# Altium schematic symbol library SchlibpolyESP.SchLib: 31 symbols
Pins are listed as number, name and electrical type; pins without a type are passive.

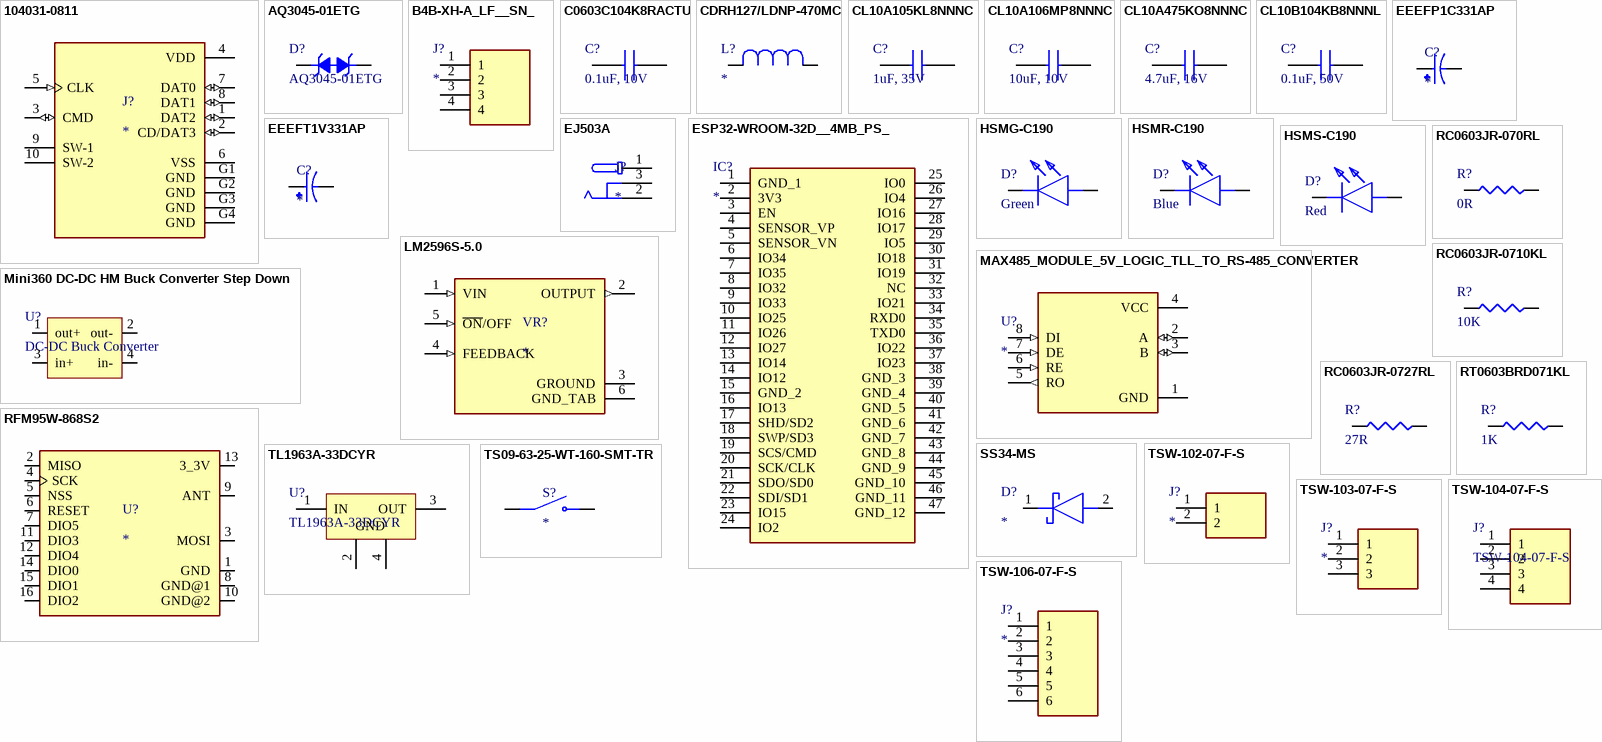
[diagram p0: symbols 104031-0811 to TSW-106-07-F-S]

## 104031-0811
designator J?
Surface Mount Micro SD Card Connector, with Push In Termination | Molex Incorporated 104031-0811; SnapEDA_Link: https://www.snapeda.com/parts/104031-0811/Molex/view-part/?ref=snap; Package: None; Value: *; MF: Molex; MP: 104031-0811; Check_prices: https://www.snapeda.com/parts/104031-0811/Molex/view-part/?ref=eda
footprint MOLEX_104031-0811
pins: 1 DAT2 (io), 2 CD/DAT3 (io), 3 CMD (io), 4 VDD (power), 5 CLK (in), 6 VSS (power), 7 DAT0 (io), 8 DAT1 (io), 9 SW-1, 10 SW-2, G1 GND (power), G2 GND (power), G3 GND (power), G4 GND (power)

## AQ3045-01ETG
designator D?
TVS DIODE 5.3VWM 12VC SOD882; Manufacturer: Littelfuse; Diode Element Material: SILICON; Package Body Material: Plastic; Polarity: Bidirectional; Max Breakdown Voltage: 9V; Min Breakdown Voltage: 6.8V; Diode Type: TRANS VOLTAGE SUPPRESSOR; Non-rep Peak Rev Power Dis-Max: 40W; Number of Elements: 1; Rep Pk Reverse Voltage-Max: 5.3V; Reference Standard: AEC-Q101; Supplier: Digikey; Supplier Part Number: F9321CT-ND; Manufacturer Part Number: AQ3045-01ETG; RoHS: Yes; Category: TVS Diodes; Stock: 21664; Pricing: 1=0.5, 10=0.391, 100=0.2344, 500=0.217, 1000=0.14756, 2000=0.13585, 5000=0.1302 (USD); Pins: 2; Package Shape: Rectangular; Min Operating Temperature: -55°C; Max Operating Temperature: 150°C; Package Style: CHIP CARRIERMeter; Surface Mount: Yes; Technology: AVALANCHE; Terminal Form: No Lead; Terminal Position: BOTTOM; Reach SVHC Compliant: Yes; RoHS Compliant: Yes; ComponentLink1URL: https://datasheet.ciiva.com:443/pdfs/VipMasterIC/IC/LFSI/LFSI-S-A0007892042/LFSI-S-A0007892042-1.pdf?src-supplier=IHS+Markit; ComponentLink1Description: https://datasheet.ciiva.com:443/pdfs/VipMasterIC/IC/LFSI/LFSI-S-A0007892042/LFSI-S-A0007892042-1.pdf?src-supplier=IHS+Markit; ComponentLink2URL: https://www.littelfuse.com/~/media/electronics/datasheets/tvs_diode_arrays/littelfuse_tvs_diode_array_aq3045_datasheet.pdf.pdf?src-supplier=Digikey; ComponentLink2Description: https://www.littelfuse.com/~/media/electronics/datasheets/tvs_diode_arrays/littelfuse_tvs_diode_array_aq3045_datasheet.pdf.pdf?src-supplier=Digikey; ComponentLink3URL: http://www.littelfuse.com/~/media/electronics/datasheets/tvs_diode_arrays/littelfuse_tvs_diode_array_aq3045_datasheet.pdf.pdf?src-supplier=Digikey; ComponentLink3Description: http://www.littelfuse.com/~/media/electronics/datasheets/tvs_diode_arrays/littelfuse_tvs_diode_array_aq3045_datasheet.pdf.pdf?src-supplier=Digikey; LCSC Part Number: C3710326
footprint SOD882
pins: 1, 2

## B4B-XH-A_LF__SN_
designator J?
Connector; Manufacturer_Name: JST (JAPAN SOLDERLESS TERMINALS); Manufacturer_Part_Number: B4B-XH-A(LF)(SN); Datasheet Link: https://datasheet.lcsc.com/szlcsc/JST-Sales-America-B4B-XH-A-LF-SN_C144395.pdf; Height: 7mm; Mouser Part Number: 306-B4BXHALFSN; Mouser Price/Stock: https://www.mouser.co.uk/ProductDetail/JST-Commercial/B4B-XH-ALFSN?qs=cdbOS8ANM9CfC08d%252BywhFw%3D%3D; Arrow Part Number: B4B-XH-A(LF)(SN); Arrow Price/Stock: https://www.arrow.com/en/products/b4b-xh-a-lf-sn/jst-manufacturing?utm_currency=USD&region=europe
footprint B4BXHALFSN
pins: 1, 2, 3, 4

## C0603C104K8RACTU
designator C?, comment 0.1uF, 10V
CAP CER 0.1UF 10V X7R 0603; Manufacturer_Name: KEMET; Manufacturer_Part_Number: C0603C104K8RACTU; Datasheet Link: https://componentsearchengine.com/Datasheets/2/CL10A106MP8NNNC.pdf; Height: 0.9mm; Mouser Part Number: 187-CL10A106MP8NNNC; Mouser Price/Stock: https://www.mouser.co.uk/ProductDetail/Samsung-Electro-Mechanics/CL10A106MP8NNNC?qs=X6jEic%2FHinAgjcVTZfg7UA%3D%3D; Arrow Part Number: CL10A106MP8NNNC; Arrow Price/Stock: https://www.arrow.com/en/products/cl10a106mp8nnnc/samsung-electro-mechanics?utm_currency=USD&region=europe
footprint CAPC1608X90N
pins: 1, 2

## CDRH127/LDNP-470MC
designator L?
Inductor Power Shielded Drum Core 47uH 20% 1KHz Ferrite 4.1A 0.078Ohm DCR T/R; MF: Sumida Corporation; MP: CDRH127/LDNP-470MC; SnapEDA_Link: https://www.snapeda.com/parts/CDRH127/LDNP-470MC/Sumida/view-part/?ref=snap; Package: Non Standard Sumida; Value: *; Check_prices: https://www.snapeda.com/parts/CDRH127/LDNP-470MC/Sumida/view-part/?ref=eda
footprint IND_CDRH127/LDNP-470MC_SUM
pins: 1, 2

## CL10A105KL8NNNC
designator C?, comment 1uF, 35V
Ceramic Capacitor, Multilayer, Ceramic, 35V, 10% +Tol, 10% -Tol, X5R, +-15% TC, 1uF, Surface Mount, 0603 inch; Manufacturer: Samsung; Manufacturer Part Number: CL10A105KL8NNNC; Material: 4241ConductorMaterial; Supplier 1: Digikey; RoHS: Yes; Category: Ceramic Capacitors; Stock 1: 11037; Pricing 1: 1=0,13, 10=0,073, 100=0,044, 1000=0,03277 (USD); Voltage Rating (DC): 35V; Height: 900um; Lead Free: 5697LeadFree; ComponentLink1URL: https://datasheet.ciiva.com/25773/cl10a105kl8nnnc-25773809.pdf?src-supplier=Digikey; ComponentLink1Description: https://datasheet.ciiva.com/25773/cl10a105kl8nnnc-25773809.pdf?src-supplier=Digikey; ComponentLink2URL: https://datasheet.ciiva.com/16202/clseries-16202344.pdf?src-supplier=Future+Electronics; ComponentLink2Description: https://datasheet.ciiva.com/16202/clseries-16202344.pdf?src-supplier=Future+Electronics
footprint CAPC1608X90N
pins: 1, 2

## CL10A106MP8NNNC
designator C?, comment 10uF, 10V
CAP CER 10UF 10V X5R 0603; Manufacturer_Name: SAMSUNG; Manufacturer_Part_Number: CL10A106MP8NNNC; Datasheet Link: https://componentsearchengine.com/Datasheets/2/CL10A106MP8NNNC.pdf; Height: 0.9mm; Mouser Part Number: 187-CL10A106MP8NNNC; Mouser Price/Stock: https://www.mouser.co.uk/ProductDetail/Samsung-Electro-Mechanics/CL10A106MP8NNNC?qs=X6jEic%2FHinAgjcVTZfg7UA%3D%3D; Arrow Part Number: CL10A106MP8NNNC; Arrow Price/Stock: https://www.arrow.com/en/products/cl10a106mp8nnnc/samsung-electro-mechanics?utm_currency=USD&region=europe
footprint CAPC1608X90N
pins: 1, 2

## CL10A475KO8NNNC
designator C?, comment 4.7uF, 16V
CAP CER 4,7UF 16V X5R 0603; Manufacturer_Name: SAMSUNG; Manufacturer_Part_Number: CL10A475KO8NNNC; Datasheet Link: https://componentsearchengine.com/Datasheets/2/CL10A106MP8NNNC.pdf; Height: 0.9mm; Mouser Part Number: 187-CL10A106MP8NNNC; Mouser Price/Stock: https://www.mouser.co.uk/ProductDetail/Samsung-Electro-Mechanics/CL10A106MP8NNNC?qs=X6jEic%2FHinAgjcVTZfg7UA%3D%3D; Arrow Part Number: CL10A106MP8NNNC; Arrow Price/Stock: https://www.arrow.com/en/products/cl10a106mp8nnnc/samsung-electro-mechanics?utm_currency=USD&region=europe
footprint CAPC1608X90N
pins: 1, 2

## CL10B104KB8NNNL
designator C?, comment 0.1uF, 50V
CAP CER 0.1UF 50V X7R 0603; Manufacturer_Name: SAMSUNG; Manufacturer_Part_Number: CL10B104KB8NNNL; Datasheet Link: https://componentsearchengine.com/Datasheets/2/CL10A106MP8NNNC.pdf; Height: 0.9mm; Mouser Part Number: 187-CL10A106MP8NNNC; Mouser Price/Stock: https://www.mouser.co.uk/ProductDetail/Samsung-Electro-Mechanics/CL10A106MP8NNNC?qs=X6jEic%2FHinAgjcVTZfg7UA%3D%3D; Arrow Part Number: CL10A106MP8NNNC; Arrow Price/Stock: https://www.arrow.com/en/products/cl10a106mp8nnnc/samsung-electro-mechanics?utm_currency=USD&region=europe
footprint CAPC1608X90N
pins: 1, 2

## EEEFP1C331AP
designator C?
CAP ALUM 330UF 20% 16V SMD; MF: Panasonic Electronic; MP: EEE-FP1C331AP; SnapEDA_Link: https://www.snapeda.com/parts/EEE-FP1C331AP/Panasonic/view-part/?ref=snap; Package: RADIAL-2 Panasonic; Value: *; Check_prices: https://www.snapeda.com/parts/EEE-FP1C331AP/Panasonic/view-part/?ref=eda
footprint CAP_EEEFP1C331AP
pins: 1, 2

## EEEFT1V331AP
designator C?
CAP ALUM 330UF 20% 35V SMD; MF: Panasonic Electronic; MP: EEE-FT1V331AP; SnapEDA_Link: https://www.snapeda.com/parts/EEE-FT1V331AP/Panasonic/view-part/?ref=snap; Package: RADIAL-2 Panasonic; Value: *; Check_prices: https://www.snapeda.com/parts/EEE-FT1V331AP/Panasonic/view-part/?ref=eda
footprint CAP_EEEFT1V331AP
pins: 1, 2

## EJ503A
designator J?
Power Barrel Connector Jack 2.10mm ID (0.083), 5.50mm OD (0.217) Through Hole, Right Angle; MF: MPD; MP: EJ503A; Package: None; Price: None; Check_prices: https://www.snapeda.com/parts/EJ503A/MPD+%2528Memory+Protection+Devices%2529/view-part/?ref=eda; Value: *; SnapEDA_Link: https://www.snapeda.com/parts/EJ503A/MPD+%2528Memory+Protection+Devices%2529/view-part/?ref=snap; Availability: In Stock; Purchase-URL: https://pricing.snapeda.com/search?q=EJ503A&ref=eda
footprint MPD_EJ503A
pins: 1, 2, 3

## ESP32-WROOM-32D__4MB_PS_
designator IC?
Integrated Circuit; Manufacturer_Name: Espressif Systems; Manufacturer_Part_Number: ESP32-WROOM-32D (4MB PS); Datasheet Link: https://www.mouser.com/datasheet/2/891/esp32-wroom-32d_esp32-wroom-32u_datasheet_en-1365844.pdf; Height: 3.2mm; Mouser Part Number: 356-ESPWROOM3200PS3; Mouser Price/Stock: https://www.mouser.co.uk/ProductDetail/Espressif-Systems/ESP32-WROOM-32D-4MB-PS?qs=GBLSl2Akirs5uooPY1MBgw%3D%3D
footprint ESP32WROOM32D4MBPS
pins: 1 GND_1, 2 3V3, 3 EN, 4 SENSOR_VP, 5 SENSOR_VN, 6 IO34, 7 IO35, 8 IO32, 9 IO33, 10 IO25, 11 IO26, 12 IO27, 13 IO14, 14 IO12, 15 GND_2, 16 IO13, 17 SHD/SD2, 18 SWP/SD3, 19 SCS/CMD, 20 SCK/CLK, 21 SDO/SD0, 22 SDI/SD1, 23 IO15, 24 IO2, 25 IO0, 26 IO4, 27 IO16, 28 IO17, 29 IO5, 30 IO18, 31 IO19, 32 NC, 33 IO21, 34 RXD0, 35 TXD0, 36 IO22, 37 IO23, 38 GND_3, 39 GND_4, 40 GND_5, 41 GND_6, 42 GND_7, 43 GND_8, 44 GND_9, 45 GND_10, 46 GND_11, 47 GND_12

## HSMG-C190
designator D?, comment Green
Green LED 0603 (1608 Metric); Manufacturer_Name: Avago Technologies; Manufacturer_Part_Number: HSMG-C190; Datasheet Link: https://docs.broadcom.com/docs/AV02-0551EN; Height: 0.9mm; Mouser Part Number: 630-HSMG-C190; Mouser Price/Stock: https://www.mouser.co.uk/ProductDetail/Broadcom-Avago/HSMG-C190?qs=YDL0qNrpDT605sxOaps8VQ%3D%3D
footprint LEDC1608X90N
pins: 1 K, 2 A

## HSMR-C190
designator D?, comment Blue
Blue LED 0603 (1608 Metric); Manufacturer_Name: Avago Technologies; Manufacturer_Part_Number: HSMG-C190; Datasheet Link: https://docs.broadcom.com/docs/AV02-0551EN; Height: 0.9mm; Mouser Part Number: 630-HSMG-C190; Mouser Price/Stock: https://www.mouser.co.uk/ProductDetail/Broadcom-Avago/HSMG-C190?qs=YDL0qNrpDT605sxOaps8VQ%3D%3D
footprint LEDC1608X90N
pins: 1 K, 2 A

## HSMS-C190
designator D?, comment Red
Red LED 0603 (1608 Metric); Manufacturer_Name: Avago Technologies; Manufacturer_Part_Number: HSMG-C190; Datasheet Link: https://docs.broadcom.com/docs/AV02-0551EN; Height: 0.9mm; Mouser Part Number: 630-HSMG-C190; Mouser Price/Stock: https://www.mouser.co.uk/ProductDetail/Broadcom-Avago/HSMG-C190?qs=YDL0qNrpDT605sxOaps8VQ%3D%3D
footprint LEDC1608X90N
pins: 1 K, 2 A

## LM2596S-5.0
designator VR?
SIMPLE SWITCHERÂ® 4.5V to 40V, 3A Low Component Count Step-Down Regulator; MF: Texas Instruments; MP: LM2596S-5.0/NOPB; SnapEDA_Link: https://www.snapeda.com/parts/LM2596S-5.0/NOPB/Texas+Instruments/view-part/?ref=snap; Package: TO-263-5 Texas Instruments; Value: *; Check_prices: https://www.snapeda.com/parts/LM2596S-5.0/NOPB/Texas+Instruments/view-part/?ref=eda
footprint TO170P1524X483-6N
pins: 1 VIN (in), 2 OUTPUT (out), 3 GROUND (power), 4 FEEDBACK (in), 5 ~{ON}/OFF (in), 6 GND_TAB (power)

## MAX485_MODULE_5V_LOGIC_TLL_TO_RS-485_CONVERTER
designator U?
5V MAX485 TTL To RS485 Converter Module Board for Arduino; MP: MAX485 Module 5V logic TLL to RS-485 converter; MF: e-Gizmo Mechatronix Central; Value: *; SnapEDA_Link: https://www.snapeda.com/parts/MAX485%20Module%205V%20logic%20TLL%20to%20RS-485%20converter/e-Gizmo+Mechatronix+Central/view-part/?ref=snap; Package: Package; Availability: Not in stock; Check_prices: https://www.snapeda.com/parts/MAX485%20Module%205V%20logic%20TLL%20to%20RS-485%20converter/e-Gizmo+Mechatronix+Central/view-part/?ref=eda; Price: None
footprint MODULE_MAX485_MODULE_5V_LOGIC_TLL_TO_RS-485_CONVERTER
pins: 1 GND (power), 2 A (io), 3 B (io), 4 VCC (power), 5 RO (out), 6 RE (in), 7 DE (in), 8 DI (in)

## Mini360 DC-DC HM Buck Converter Step Down
designator U?, comment DC-DC Buck Converter
footprint DIP4 - duplicate
pins: 1 out+, 2 out-, 3 in+, 4 in-

## RC0603JR-070RL
designator R?, comment 0R
RES 0 OHM JUMPER 1/10W 0603; Manufacturer: Yageo; Manufacturer Part Number: RC0603JR-070RL; Resistance: 0mR; Tolerance: 1%; Voltage Rating: 50V; Power Rating: 100mW; Temperature Coefficient: 200ppm/°C; Resistance Tolerance: 5%; Supplier 1: Digikey; RoHS: Yes; Category: Chip SMD Resistors; Stock 1: 2438419; Pricing 1: 1=0,1, 10=0,01, 25=0,008, 50=0,0068, 100=0,0059, 250=0,00496, 500=0,00436, 1000=0,00384, 5000=0,00292, 10000=0,00262, 15000=0,00246, 25000=0,00229, 35000=0,00218, 50000=0,00208, 125000=0,00185, 250000=0,00171, 500000=0,00159 (USD); Case/Package: 0603; Number of Pins: 2; Case Code (Imperial): 0603; Contact Plating: Tin,Matte; Case Code (Metric): 1608; Size Code: 0603; Min Operating Temperature: -55°C; Max Operating Temperature: 155°C; Packaging: Tape and Reel; Voltage Rating (DC): 50V; Termination: SMD/SMT; Package Quantity: 5000; Resistor Type: Thick Film; Features: Moisture Resistant; Series: RC; Max Power Dissipation: 100mW; Number of Terminations: 2; Construction: Rectangular; Technology: THICK FILM; Length: 1.6mm; Width: 0.8mm; Height: 0.45mm; Depth: 0.8mm; Military Standard: Not; Reach SVHC Compliant: Unknown; Lead Free: 5697LeadFree; RoHS Compliant: Yes; ComponentLink1URL: https://datasheet.ciiva.com/11808/pyu-r-int-6-11808700.pdf?src-supplier=Rs; ComponentLink1Description: https://datasheet.ciiva.com/11808/pyu-r-int-6-11808700.pdf?src-supplier=Rs; ComponentLink2URL: https://datasheet.ciiva.com/22747/443971-22747530.pdf?src-supplier=Element14; ComponentLink2Description: https://datasheet.ciiva.com/22747/443971-22747530.pdf?src-supplier=Element14; ComponentLink3URL: https://datasheet.ciiva.com/12555/rc0603-272842-12555254.pdf?src-supplier=Mouser; ComponentLink3Description: https://datasheet.ciiva.com/12555/rc0603-272842-12555254.pdf?src-supplier=Mouser; ComponentLink4URL: https://datasheet.ciiva.com/7746/1738695-7746421.pdf?src-supplier=Element14; ComponentLink4Description: https://datasheet.ciiva.com/7746/1738695-7746421.pdf?src-supplier=Element14; ComponentLink5URL: https://datasheet.ciiva.com/7746/1738695-7746422.pdf?src-supplier=Element14; ComponentLink5Description: https://datasheet.ciiva.com/7746/1738695-7746422.pdf?src-supplier=Element14
footprint RESC1607X60N
pins: 1, 2

## RC0603JR-0710KL
designator R?, comment 10K
RES 10K OHM 5% 1/10W 0603; Manufacturer: Yageo; Manufacturer Part Number: RC0603JR-0710KL; Resistance: 10kR; Temperature Coefficient: 100ppm/°C; Voltage Rating (AC): 50V; Max Power Dissipation: 100mW; Supplier 1: Digikey; RoHS: Yes; Category: Chip SMD Resistors; Stock 1: 50431; Pricing 1: 1=0,1, 10=0,008, 50=0,0072, 100=0,0061, 500=0,0051 (USD); Case/Package: 0603; Min Operating Temperature: -55°C; Max Operating Temperature: 155°C; Tolerance: 5%; Number of Terminations: 2; Series: RC; Reach SVHC Compliant: 4187SVHC; Lead Free: 5697LeadFree; RoHS Compliant: Yes; ComponentLink1URL: https://datasheet.ciiva.com/2452/pyu-rc-group-51-rohs-l-10-2452848.pdf?src-supplier=Digikey; ComponentLink1Description: https://datasheet.ciiva.com/2452/pyu-rc-group-51-rohs-l-10-2452848.pdf?src-supplier=Digikey
footprint RESC1607X60N
pins: 1, 2

## RC0603JR-0727RL
designator R?, comment 27R
RES 27 OHM 5% 1/10W 0603; Manufacturer: Yageo; Manufacturer Part Number: RC0603JR-0727RL; Voltage Rating (AC): 50V; Supplier 1: Digikey; RoHS: Yes; Category: Chip SMD Resistors; Stock 1: 235857; Pricing 1: 1=0,1, 10=0,008, 50=0,0072, 100=0,0061, 500=0,00562, 1000=0,0051 (USD); Lead Free: 5697LeadFree; ComponentLink1URL: https://datasheet.ciiva.com/7746/443971-7746479.pdf?src-supplier=Element14; ComponentLink1Description: https://datasheet.ciiva.com/7746/443971-7746479.pdf?src-supplier=Element14
footprint RESC1607X60N
pins: 1, 2

## RFM95W-868S2
designator U?
General ISM < 1GHz LoRaâ„¢ Transceiver Module 868MHz Antenna Not Included Surface Mount; MF: RF; MP: RFM95W-868S2; Package: Non Standard RF Solutions; Price: None; Check_prices: https://www.snapeda.com/parts/RFM95W-868S2/RF+Solutions/view-part/?ref=eda; Value: *; SnapEDA_Link: https://www.snapeda.com/parts/RFM95W-868S2/RF+Solutions/view-part/?ref=snap; Availability: In Stock; Purchase-URL: https://pricing.snapeda.com/search?q=RFM95W-868S2&ref=eda
footprint XCVR_RFM95W-868S2
pins: 1 GND (power), 2 MISO, 3 MOSI, 4 SCK, 5 NSS, 6 RESET, 7 DIO5, 8 GND@1 (power), 9 ANT, 10 GND@2 (power), 11 DIO3, 12 DIO4, 13 3_3V (power), 14 DIO0, 15 DIO1, 16 DIO2

## RT0603BRD071KL
designator R?, comment 1K
Fixed Resistor, Thin Film, 0.1W, 1000ohm, 75V, 0.1% +/-Tol, 25ppm/Cel, Surface Mount, 0603; Manufacturer: Yageo; Manufacturer Part Number: RT0603BRD071KL; Resistance: 1kR; Power Rating: 100mW; Temperature Coefficient: 25ppm/°C; Voltage Rating (DC): 50V; Supplier 1: Digikey; RoHS: Yes; Category: Chip SMD Resistors; Stock 1: 60333; Pricing 1: 1=0,15, 10=0,108, 50=0,0868, 100=0,0775, 500=0,06018, 1000=0,05202 (USD); Mount: Surface Mount; Case/Package: 0603; Case Code (Metric): 1608; Case Code (Imperial): 0603; Contact Plating: Tin,Lead; Size Code: 0603; Min Operating Temperature: -55°C; Max Operating Temperature: 155°C; Package Quantity: 5000; Packaging: Tape and Reel; Voltage Rating: 75V; Number of Terminations: 2; Termination: SMD/SMT; Max Power Dissipation: 100mW; Features: Moisture Resistant; Series: RT; Technology: THIN FILM; Length: 0.063inch; Width: 0.031inch; Height: 0.022inch; Depth: 0.8mm; RoHS Compliant: Yes; Lead Free: 5697LeadFree; ComponentLink1URL: https://datasheet.ciiva.com/11819/0900766b8079c86e-11819652.pdf?src-supplier=Rs; ComponentLink1Description: https://datasheet.ciiva.com/11819/0900766b8079c86e-11819652.pdf?src-supplier=Rs; ComponentLink2URL: https://datasheet.ciiva.com/5624/pyu-rt-1-to-0-05-rohs-l-4-5624759.pdf?src-supplier=Mouser; ComponentLink2Description: https://datasheet.ciiva.com/5624/pyu-rt-1-to-0-05-rohs-l-4-5624759.pdf?src-supplier=Mouser
footprint RESC1607X60N
pins: 1, 2

## SS34-MS
designator D?
Schottky Diode; Manufacturer_Name: MSKSEMI; Manufacturer_Part_Number: SS34-MS; Datasheet Link: https://datasheet.lcsc.com/lcsc/2202131930_MSKSEMI-SS34-MS_C2836396.pdf; Height: 2.41mm
footprint DIOM5127X241N
pins: 1 K, 2 A

## TL1963A-33DCYR
designator U?
IC REG LINEAR 3.3V 1.5A SOT223-4; Manufacturer: Texas Instruments; Package Body Material: Plastic; Adjustability: FIXED; Dropout Voltage1-Max: 550mV; Dropout Voltage1-Nom: 340mV; Input Voltage Absolute-Max: 20V; Min Input Voltage: 3.8V; Line Regulation-Max: 0.01%; Load Regulation-Max: 0.07%; Channels: 1; Output Voltage1-Max: 3.4V; Output Voltage1-Min: 3.2V; Regulator Type: FIXED POSITIVE SINGLE OUTPUT LDO REGULATOR; Voltage Tolerance-Max: 3%; Qualification Status: Not Qualified; Supplier: Digikey; Supplier Part Number: 296-24897-1-ND; Manufacturer Part Number: TL1963A-33DCYR; RoHS: Yes; Category: Voltage Regulators - Linear; Stock: 4105; Pricing: 1=2.91, 10=2.614, 25=2.4712, 100=2.1417, 250=2.03188, 500=1.8232, 1000=1.53764 (USD); Case/Package: SOP; Pins: 4; Package Shape: Rectangular; Terminal Finish: Tin; JESD-609 Code: e3; Max Supply Voltage: 20V; JESD-30 Code: R-PDSO-G4; Moisture Sensitivity Level: 2; Number of Outputs: 1; Operating Temperature, TJ-Max: 125°C; Operating Temperature, TJ-Min: -40°C; Output Current1-Max: 1.5A; Output Voltage1-Nom: 3.3V; Package Style: SMALL OUTLINEMeter; Packaging: Tape and Reel; Peak Reflow Temperature (Cel): 260°C; Surface Mount: Yes; Technology: BIPOLAR; Terminal Form: Gull Wing; Terminal Position: DUAL; Length: 6.5mm; Width: 3.5mm; Height - Seated (Max): 1.8mm; Terminal Pitch: 2.3mm; Reach SVHC Compliant: Yes; RoHS Compliant: Yes; ComponentLink1URL: https://www.ti.com:443/lit/ds/symlink/tl1963a.pdf?src-supplier=IHS+Markit; ComponentLink1Description: https://www.ti.com:443/lit/ds/symlink/tl1963a.pdf?src-supplier=IHS+Markit; ComponentLink2URL: https://datasheet.ciiva.com/2046/-2046068.pdf?src-supplier=Digikey; ComponentLink2Description: https://datasheet.ciiva.com/2046/-2046068.pdf?src-supplier=Digikey; LCSC Part Number: C181262
footprint DCY0004A_N (SOT223, 4-Leads, Body 6.7x3.7mm, Pitch 2.3mm, IPC Medium Density)
pins: 1 IN (power) "Input. Power is supplied to the device through the IN pin. A bypass capacitor is required on this pin if the device is more than six inches away from the main input filter capacitor. In general, the output impedance of a (See Datasheet)", 2 GND (power) "Ground", 3 OUT (power) "Output. The output supplies power to the load. A minimum output capacitor (ceramic) of 10 uF is required to prevent oscillations. Larger output capacitors are required for applications with large transient loads to limit (See Datasheet)", 4 GND (power) "Ground"

## TS09-63-25-WT-160-SMT-TR
designator S?
SWITCH TACTILE SPST-NO 0.05A 12V; MF: Same Sky; MP: TS09-63-25-WT-160-SMT-TR; SnapEDA_Link: https://www.snapeda.com/parts/TS09-63-25-WT-160-SMT-TR/Same+Sky/view-part/?ref=snap; Package: None; Value: *; Check_prices: https://www.snapeda.com/parts/TS09-63-25-WT-160-SMT-TR/Same+Sky/view-part/?ref=eda
footprint SW_TS09-63-25-WT-160-SMT-TR
pins: 1, 2

## TSW-102-07-F-S
designator J?
Connector; Manufacturer_Name: SAMTEC; Manufacturer_Part_Number: TSW-102-07-F-S; Datasheet Link: http://suddendocs.samtec.com/prints/tsw-xxx-xx-xxx-x-xx-xxx-mkt.pdf; Mouser Part Number: 200-TSW10207FS; Mouser Price/Stock: https://www.mouser.co.uk/ProductDetail/Samtec/TSW-102-07-F-S?qs=hzq9O0YpnZuC7JuvEqrjIA%3D%3D; Arrow Part Number: TSW-102-07-F-S; Arrow Price/Stock: https://www.arrow.com/en/products/tsw-102-07-f-s/samtec?utm_currency=USD&region=europe
footprint TSW-102-XX-YY-S
pins: 1, 2

## TSW-103-07-F-S
designator J?
Connector; Manufacturer_Name: SAMTEC; Manufacturer_Part_Number: TSW-103-07-F-S; Datasheet Link: http://suddendocs.samtec.com/prints/tsw-xxx-xx-xxx-x-xx-xxx-mkt.pdf; Mouser Part Number: 200-TSW10307FS; Mouser Price/Stock: https://www.mouser.co.uk/ProductDetail/Samtec/TSW-103-07-F-S?qs=rU5fayqh%252BE3ejKVHu4LRAQ%3D%3D; Arrow Part Number: TSW-103-07-F-S; Arrow Price/Stock: https://www.arrow.com/en/products/tsw-103-07-f-s/samtec?utm_currency=USD&region=nac
footprint TSW-103-XX-YY-S
pins: 1, 2, 3

## TSW-104-07-F-S
designator J?
Connector 4POS 2.54MM; Manufacturer_Name: SAMTEC; Datasheet Link: https://suddendocs.samtec.com/catalog_english/tsw_th.pdf?_gl=1*1e31eip*_ga*MTA2MjMwMjY5Ny4xNjcwNzQ1Mjgy*_ga_3KFNZC07WW*MTY4MzE4MzQ4MS4xMTEuMS4xNjgzMTgzNTExLjMwLjAuMA..; Height: 8.38mm; Manufacturer_Part_Number: TSW-104-07-F-S; Mouser Part Number: 200-TSW10407FS; Mouser Price/Stock: https://www.mouser.co.uk/ProductDetail/Samtec/TSW-104-07-F-S?qs=rU5fayqh%252BE12qSBOmZIjdA%3D%3D; Arrow Part Number: TSW-104-07-F-S; Arrow Price/Stock: https://www.arrow.com/en/products/tsw-104-07-f-s/samtec?region=europe
footprint HDRV4W64P0X254_1X4_1016X254X838P
pins: 1, 2, 3, 4

## TSW-106-07-F-S
designator J?
Connector; Manufacturer_Name: SAMTEC; Manufacturer_Part_Number: TSW-106-07-F-S; Datasheet Link: http://suddendocs.samtec.com/prints/tsw-xxx-xx-xxx-x-xx-xxx-mkt.pdf; Height: 8.38mm; Mouser Part Number: 200-TSW10607FS; Mouser Price/Stock: https://www.mouser.co.uk/ProductDetail/Samtec/TSW-106-07-F-S?qs=rU5fayqh%252BE1Xwj0%2Fe2Xn%2Fw%3D%3D; Arrow Part Number: TSW-106-07-F-S; Arrow Price/Stock: https://www.arrow.com/en/products/tsw-106-07-f-s/samtec?region=nac
footprint TSW10607FS
pins: 1, 2, 3, 4, 5, 6